# Altium footprint library SMD 2mm - 20.PcbLib: 1 footprints
Each footprint in its own frame and in the unit in brackets; x right, y up, seen from the top. Pads: shape width x height; smd on the part's side, far side on the other; paste and mask are expansions set on the pad; w line width, h text height; cw(c..) or ccw(c..) is an arc to the next point about the centre after c.
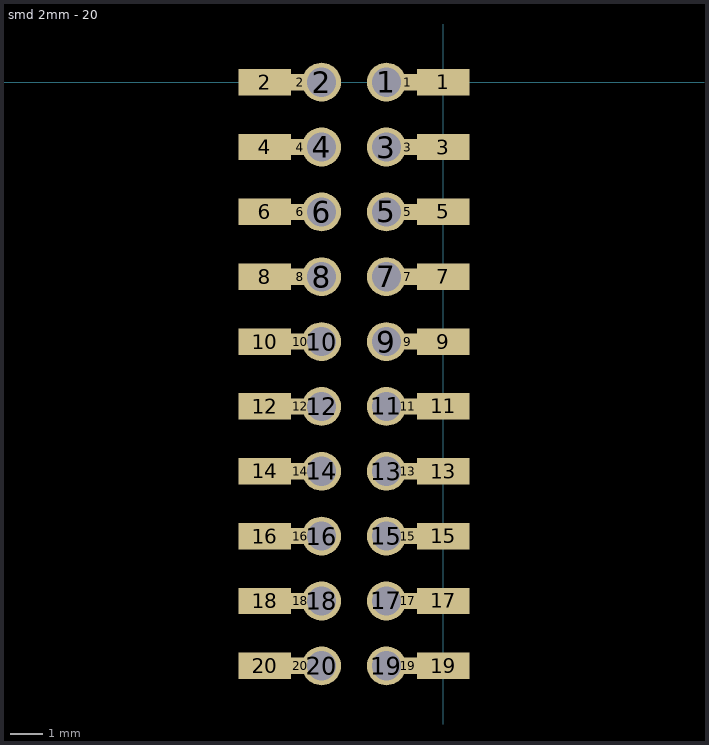
[diagram p0: the footprint, top view; thin cyan lines are the x and y axes]

## smd 2mm - 20 [mm]
pads (60):
  round 1.2 hole 0.9: 1(-1.75,0) 2(-3.75,0) 3(-1.75,-2) 4(-3.75,-2) 5(-1.75,-4) 6(-3.75,-4) 7(-1.75,-6) 8(-3.75,-6) 9(-1.75,-8) 10(-3.75,-8) 11(-1.75,-10) 12(-3.75,-10) 13(-1.75,-12) 14(-3.75,-12) 15(-1.75,-14) 16(-3.75,-14) 17(-1.75,-16) 18(-3.75,-16) 19(-1.75,-18) 20(-3.75,-18)
  rect 1.5x0.5 smd: 1(-1.1,0) 2(-4.4,0) 3(-1.1,-2) 4(-4.4,-2) 5(-1.1,-4) 6(-4.4,-4) 7(-1.1,-6) 8(-4.4,-6) 9(-1.1,-8) 10(-4.4,-8) 11(-1.1,-10) 12(-4.4,-10) 13(-1.1,-12) 14(-4.4,-12) 15(-1.1,-14) 16(-4.4,-14) 17(-1.1,-16) 18(-4.4,-16) 19(-1.1,-18) 20(-4.4,-18)
  rect 1.626x0.813 smd: 1(0,0) 2(-5.5,0) 3(0,-2) 4(-5.5,-2) 5(0,-4) 6(-5.5,-4) 7(0,-6) 8(-5.5,-6) 9(0,-8) 10(-5.5,-8) 11(0,-10) 12(-5.5,-10) 13(0,-12) 14(-5.5,-12) 15(0,-14) 16(-5.5,-14) 17(0,-16) 18(-5.5,-16) 19(0,-18) 20(-5.5,-18)
3D body "SD87340-20.STEP": height 2.1, standoff 0, extent -5.7,-19 0.3,1